# EAGLE library part STM32L452 (library stm32L452)
stm32l452
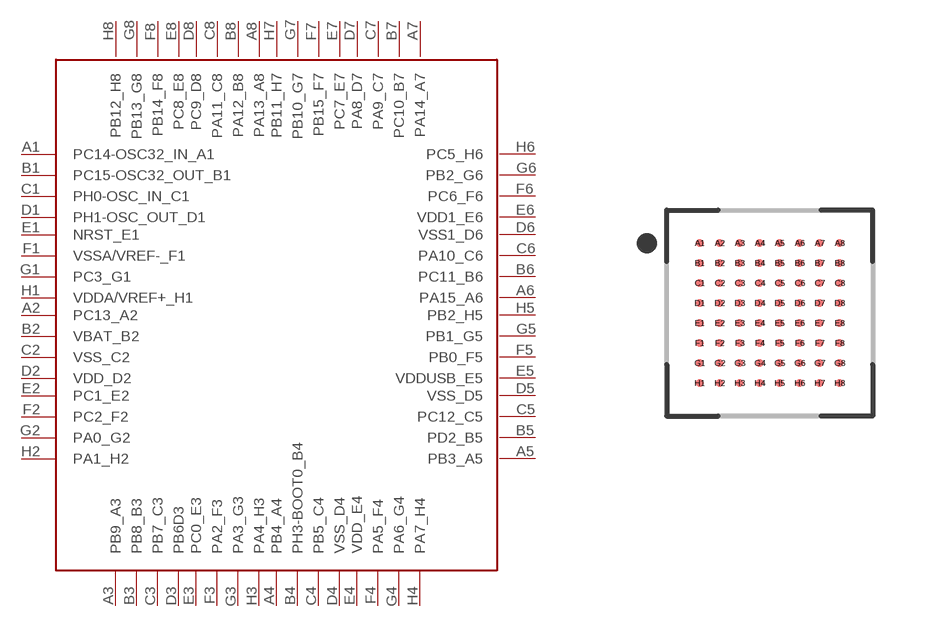
[diagram p0: symbol with the pads of BGA64C50P8X8_500X500X60N; footprint BGA64C50P8X8_500X500X60N]

Designator prefix -

## STM32L452  [BGA64C50P8X8_500X500X60N]
A1  PC14-OSC32_IN_A1
A2  PC13_A2
A3  PB9_A3
A4  PB4_A4
A5  PB3_A5
A6  PA15_A6
A7  PA14_A7
A8  PA13_A8
B1  PC15-OSC32_OUT_B1
B2  VBAT_B2
B3  PB8_B3
B4  PH3-BOOT0_B4
B5  PD2_B5
B6  PC11_B6
B7  PC10_B7
B8  PA12_B8
C1  PH0-OSC_IN_C1
C2  VSS_C2
C3  PB7_C3
C4  PB5_C4
C5  PC12_C5
C6  PA10_C6
C7  PA9_C7
C8  PA11_C8
D1  PH1-OSC_OUT_D1
D2  VDD_D2
D3  PB6D3
D4  VSS_D4
D5  VSS_D5
D6  VSS1_D6
D7  PA8_D7
D8  PC9_D8
E1  NRST_E1
E2  PC1_E2
E3  PC0_E3
E4  VDD_E4
E5  VDDUSB_E5
E6  VDD1_E6
E7  PC7_E7
E8  PC8_E8
F1  VSSA/VREF-_F1
F2  PC2_F2
F3  PA2_F3
F4  PA5_F4
F5  PB0_F5
F6  PC6_F6
F7  PB15_F7
F8  PB14_F8
G1  PC3_G1
G2  PA0_G2
G3  PA3_G3
G4  PA6_G4
G5  PB1_G5
G6  PB2_G6
G7  PB10_G7
G8  PB13_G8
H1  VDDA/VREF+_H1
H2  PA1_H2
H3  PA4_H3
H4  PA7_H4
H5  PB2_H5
H6  PC5_H6
H7  PB11_H7
H8  PB12_H8

## Footprint BGA64C50P8X8_500X500X60N (pad centres in mm)
64-BGA, collapsing, 0.50 mm pitch, 5.00 X 5.00 X 0.60 mm body 64-pin collapsing BGA package with 0.50 mm col pitch and 0.50 mm row pitch with body size 5.00 X 5.00 X 0.60 mm
smd 0.2 x 0.2: A1 -1.75,1.75; A2 -1.25,1.75; A3 -0.75,1.75; A4 -0.25,1.75; A5 0.25,1.75; A6 0.75,1.75; A7 1.25,1.75; A8 1.75,1.75; B1 -1.75,1.25; B2 -1.25,1.25; B3 -0.75,1.25; B4 -0.25,1.25; B5 0.25,1.25; B6 0.75,1.25; B7 1.25,1.25; B8 1.75,1.25; C1 -1.75,0.75; C2 -1.25,0.75; C3 -0.75,0.75; C4 -0.25,0.75; C5 0.25,0.75; C6 0.75,0.75; C7 1.25,0.75; C8 1.75,0.75; D1 -1.75,0.25; D2 -1.25,0.25; D3 -0.75,0.25; D4 -0.25,0.25; D5 0.25,0.25; D6 0.75,0.25; D7 1.25,0.25; D8 1.75,0.25; E1 -1.75,-0.25; E2 -1.25,-0.25; E3 -0.75,-0.25; E4 -0.25,-0.25; E5 0.25,-0.25; E6 0.75,-0.25; E7 1.25,-0.25; E8 1.75,-0.25; F1 -1.75,-0.75; F2 -1.25,-0.75; F3 -0.75,-0.75; F4 -0.25,-0.75; F5 0.25,-0.75; F6 0.75,-0.75; F7 1.25,-0.75; F8 1.75,-0.75; G1 -1.75,-1.25; G2 -1.25,-1.25; G3 -0.75,-1.25; G4 -0.25,-1.25; G5 0.25,-1.25; G6 0.75,-1.25; G7 1.25,-1.25; G8 1.75,-1.25; H1 -1.75,-1.75; H2 -1.25,-1.75; H3 -0.75,-1.75; H4 -0.25,-1.75; H5 0.25,-1.75; H6 0.75,-1.75; H7 1.25,-1.75; H8 1.75,-1.75